# Altium footprint library SHDR4W63P0X254_1X4_1250X500X1280P.PcbLib: 1 footprints
Each footprint in its own frame and in the unit in brackets; x right, y up, seen from the top. Pads: shape width x height; smd on the part's side, far side on the other; paste and mask are expansions set on the pad; w line width, h text height; cw(c..) or ccw(c..) is an arc to the next point about the centre after c.
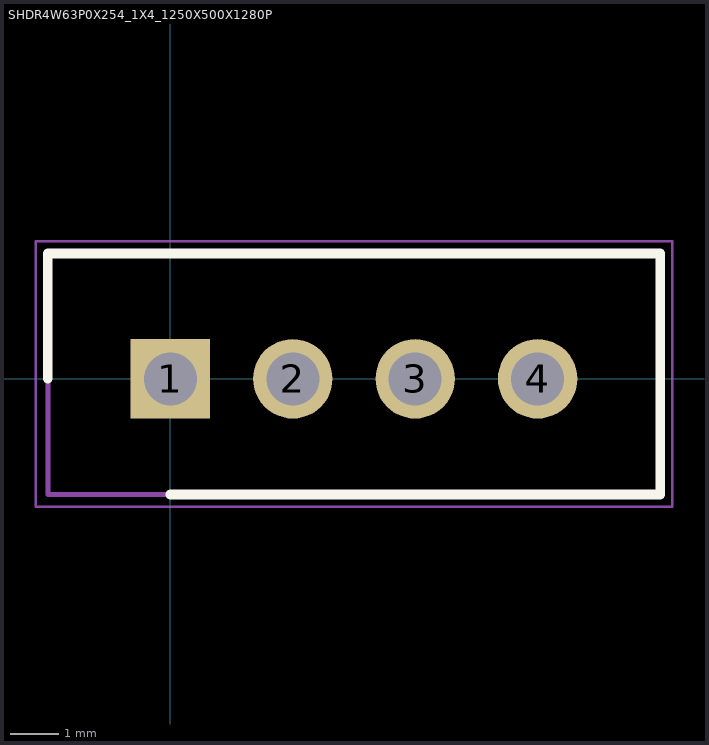
[diagram p0: the footprint, top view; thin cyan lines are the x and y axes]

## SHDR4W63P0X254_1X4_1250X500X1280P [mm]
pads (4):
  rect 1.65x1.65 / inner round 1.65 / far side rect 1.65x1.65 hole 1.1: 1(0,0)
  round 1.65 hole 1.1: 2(2.54,0) 3(5.08,0) 4(7.62,0)
Top Overlay:
  lines w0.2: -2.54,0 -2.54,2.6 10.16,2.6 10.16,-2.4 0,-2.4
Mechanical 15:
  lines w0.1: -2.54,-2.4 -2.54,2.6 10.16,2.6 10.16,-2.4 -2.54,-2.4
Mechanical 20:
  lines w0.05: -2.79,-2.65 -2.79,2.85 10.41,2.85 10.41,-2.65 -2.79,-2.65